# EAGLE library part TSV912 (library infnoise)
Cheap dual op-amp, rail-to-rail
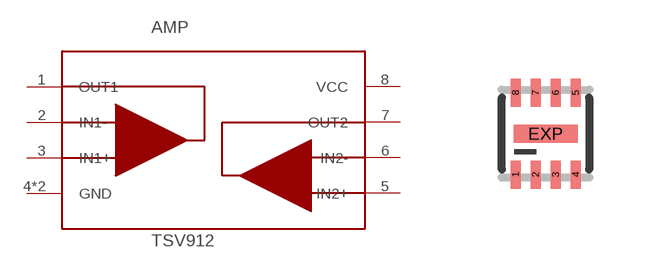
[diagram p1: symbol with the pads of DFN8-2X3; footprint DFN8-2X3]

Designator prefix AMP

## TSV912IQ2T  [DFN8-2X3]
1  OUT1
2  IN1-
3  IN1+
4  GND
5  IN2+
6  IN2-
7  OUT2
8  VCC
EXP  GND

## Footprint DFN8-2X3 (pad centres in mm)
DCB Package 8-Lead Plastic DFN (2mm × 2mm) Source: http://www.linear.com/pc/downloadDocument.do?navId=H0,C1,C1003,C1042,C1032,C1063,P26952,D16357
smd 0.25 x 0.7: 1 -0.75,-1.025; 2 -0.25,-1.025; 3 0.25,-1.025; 4 0.75,-1.025; 5 0.75,1.025; 6 0.25,1.025; 7 -0.25,1.025; 8 -0.75,1.025
smd 1.6 x 0.45: EXP 0,0